# Altium schematic symbol library MPX1D1250L330.SchLib: 1 symbol
Pins are listed as number, name and electrical type; pins without a type are passive.

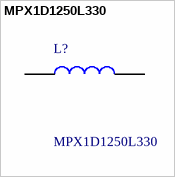
[diagram p0: symbol MPX1D1250L330]

## MPX1D1250L330
designator L?
KEMET, MPX, Power, 33 uH, 20%, 155C, -55C, 1250(5350), 5.4 A, 72 mOhms, 5 MHz, 250, 13.2mm, 13.6mm, 12.5mm, 12.7mm, 5mm, 5mm; Mouser Part Number: 80-MPX1D1250L330; Mouser Price/Stock: https://www.mouser.co.uk/ProductDetail/KEMET/MPX1D1250L330?qs=P1JMDcb91o464txG3362vg%3D%3D; Manufacturer_Name: KEMET; Manufacturer_Part_Number: MPX1D1250L330; Datasheet Link: https://content.kemet.com/datasheets/KEM_L9012_MPX.pdf; Geometry.Height: 5mm
footprint INDPM132125X500N
pins: 1, 2